# Altium schematic symbol library 102711.SchLib: 4 symbols
Pins are listed as number, name and electrical type; pins without a type are passive.

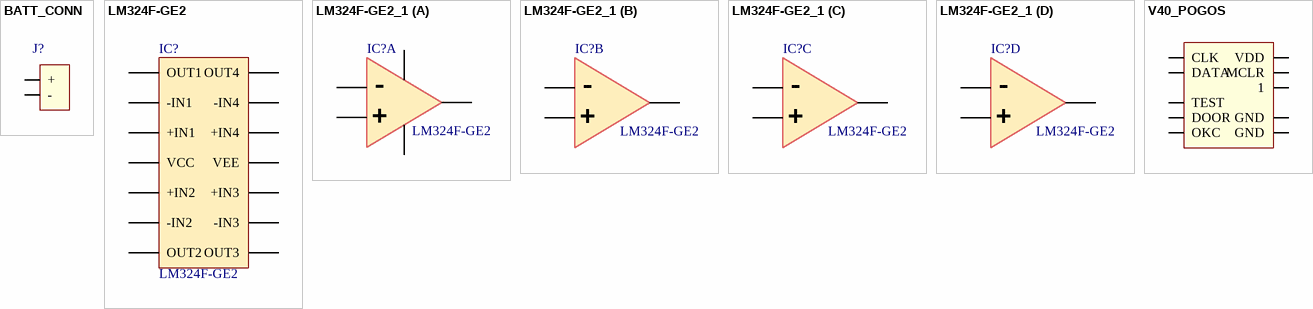
[diagram p0: symbols BATT_CONN to V40_POGOS]

## BATT_CONN
designator J?  (value not drawn)
footprint BAT_CONN
pins: 1 +, 2 -

## LM324F-GE2
designator IC?
Quad Operational Amplifier 3-32V; ComponentLink1Description: Datasheet; ComponentLink1URL: https://www.mouser.com/ds/2/348/m358f-e-1265268.pdf
footprint SOIC14
pins: 1 OUT1, 2 -IN1, 3 +IN1, 4 VCC, 5 +IN2, 6 -IN2, 7 OUT2, 8 OUT3, 9 -IN3, 10 +IN3, 11 VEE, 12 +IN4, 13 -IN4, 14 OUT4

## LM324F-GE2_1
designator IC?, comment LM324F-GE2
Quad Operational Amplifier 3-32V; ComponentLink1Description: Datasheet; ComponentLink1URL: https://www.mouser.com/ds/2/348/m358f-e-1265268.pdf
footprint SOIC14
part A pins: 1 OUT1, 2 -IN1 (hiz), 3 +IN1 (hiz), 4 VCC (power), 11 VEE (power)
part B pins: 5 +IN2 (hiz), 6 -IN2 (hiz), 7 OUT2
part C pins: 8 OUT3, 9 -IN3 (hiz), 10 +IN3 (hiz)
part D pins: 12 +IN4 (hiz), 13 -IN4 (hiz), 14 OUT4
part A text: -; +
part B text: -; +
part C text: -; +
part D text: -; +

## V40_POGOS
designator *  (value not drawn)
footprint V40_POGOS
pins: 1, 2 GND, 3 CLK, 4 DATA, 5 MCLR, 6 VDD, 7 TEST, 8 GND, 9 DOOR, 10 OKC